# EAGLE library part LTC4314 (library Analog Devices)
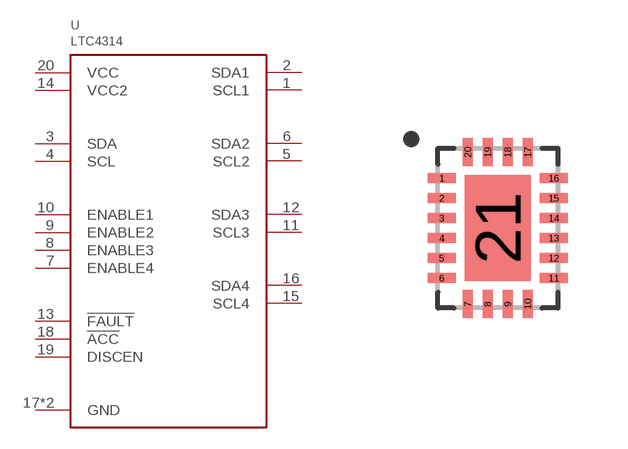
[diagram p0: symbol with the pads of QFN20_ASYM_3X4; footprint QFN20_ASYM_3X4]

Designator prefix U

## LTC4314  [QFN20_ASYM_3X4]
1  SCL1
2  SDA1
3  SDA
4  SCL
5  SCL2
6  SDA2
7  ENABLE4
8  ENABLE3
9  ENABLE2
10  ENABLE1
11  SCL3
12  SDA3
13  !FAULT
14  VCC2
15  SCL4
16  SDA4
17  GND
18  !ACC
19  DISCEN
20  VCC
21  GND

## Footprint QFN20_ASYM_3X4 (pad centres in mm)
smd 0.7 x 0.25: 1 -1.4,1.25; 2 -1.4,0.75; 3 -1.4,0.25; 4 -1.4,-0.25; 5 -1.4,-0.75; 6 -1.4,-1.25; 11 1.4,-1.25; 12 1.4,-0.75; 13 1.4,-0.25; 14 1.4,0.25; 15 1.4,0.75; 16 1.4,1.25
smd 0.25 x 0.7: 7 -0.75,-1.9; 8 -0.25,-1.9; 9 0.25,-1.9; 10 0.75,-1.9; 17 0.75,1.9; 18 0.25,1.9; 19 -0.25,1.9; 20 -0.75,1.9
smd 1.65 x 2.65: 21 0,0